# EAGLE library part AK4113 (library akm)
Digital Audio Receiver (DIR) 6:1 Selector, 24-Bit, 192 kHz
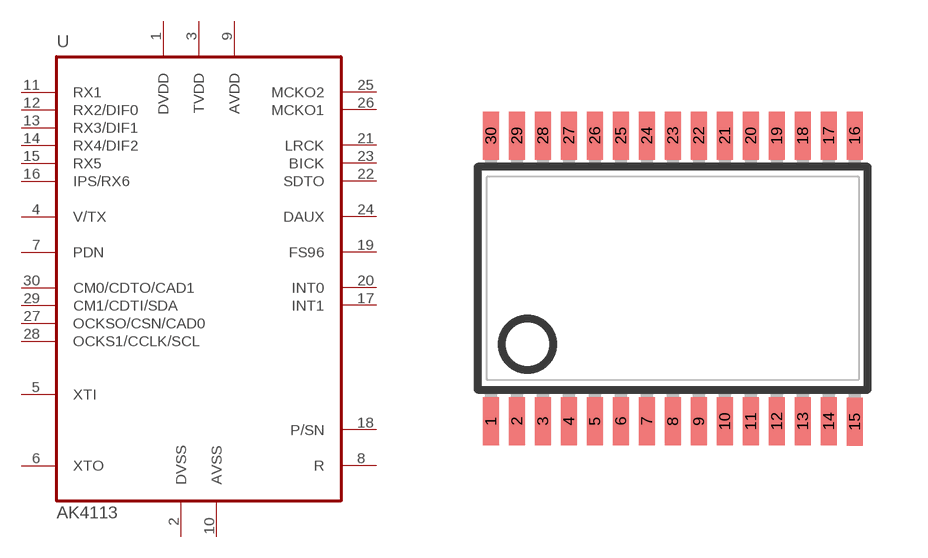
[diagram p4: symbol with the pads of VSOP30; footprint VSOP30]

Designator prefix U

## AK4113  [VSOP30]
1  DVDD  pwr
2  DVSS  pwr
3  TVDD  pwr
4  V/TX  out
5  XTI  in
6  XTO  out
7  PDN  in
8  R  pas
9  AVDD  pwr
10  AVSS  pwr
11  RX1  in
12  RX2/DIF0  in
13  RX3/DIF1  in
14  RX4/DIF2  in
15  RX5  in
16  IPS/RX6  in
17  INT1  out
18  P/SN  in
19  FS96
20  INT0  out
21  LRCK
22  SDTO  out
23  BICK
24  DAUX
25  MCKO2  out
26  MCKO1  out
27  OCKSO/CSN/CAD0
28  OCKS1/CCLK/SCL
29  CM1/CDTI/SDA
30  CM0/CDTO/CAD1

## Footprint VSOP30 (pad centres in mm)
VSOP30 9.7 x 5.6 mm, pitch .65 mm
smd 0.4 x 1.2: 1 -4.55,-3.57; 2 -3.9,-3.57; 3 -3.25,-3.57; 4 -2.6,-3.57; 5 -1.95,-3.57; 6 -1.3,-3.57; 7 -0.65,-3.57; 8 0,-3.57; 9 0.65,-3.57; 10 1.3,-3.57; 11 1.95,-3.57; 12 2.6,-3.57; 13 3.25,-3.57; 14 3.9,-3.57; 15 4.55,-3.58; 16 4.55,3.57; 17 3.9,3.57; 18 3.25,3.57; 19 2.6,3.57; 20 1.95,3.57; 21 1.3,3.57; 22 0.65,3.57; 23 0,3.57; 24 -0.65,3.57; 25 -1.3,3.57; 26 -1.95,3.57; 27 -2.6,3.57; 28 -3.25,3.57; 29 -3.9,3.57; 30 -4.55,3.57